# Altium footprint library VSON.PcbLib: 1 footprints
Each footprint in its own frame and in the unit in brackets; x right, y up, seen from the top. Pads: shape width x height; smd on the part's side, far side on the other; paste and mask are expansions set on the pad; w line width, h text height; cw(c..) or ccw(c..) is an arc to the next point about the centre after c.
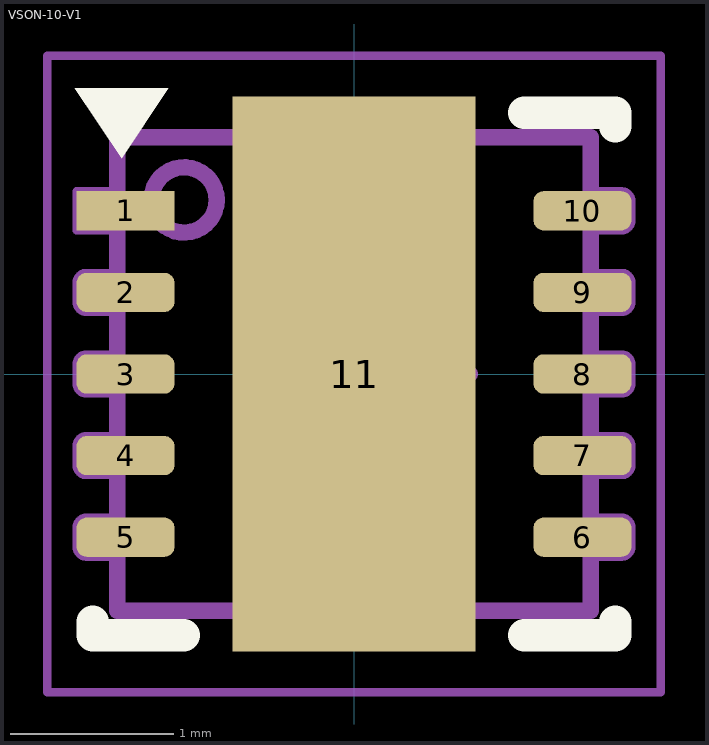
[diagram p0: the footprint, top view; thin cyan lines are the x and y axes]

## VSON-10-V1 [mm] "VSON, 10-Leads, Body 3,00x3,00mm, Pitch 0,50mm, Thermal Pad 2,40x1,49mm, IPC Low Density"
height 1
pads (11):
  rect 0.6x0.24 smd: 1(-1.4,1)
  rrect50% 0.6x0.24 smd: 2(-1.4,0.5) 3(-1.4,0) 4(-1.4,-0.5) 5(-1.4,-1) 6(1.4,-1) 7(1.4,-0.5) 8(1.4,0) 9(1.4,0.5) 10(1.4,1)
  rect 1.49x3.4 smd: 11(0,0)
Top Overlay:
  region: -1.138,1.753 -1.71,1.753 -1.424,1.324
  lines w0.2: -1.6,-1.52 -1.6,-1.6 -1.045,-1.6 ; 1.045,-1.6 1.6,-1.6 1.6,-1.52 ; 1.045,1.6 1.6,1.6 1.6,1.52
Top Assembly:
  circle w0.1: c-1.041,1.067 r0.2
  lines w0.05: -1.45,-1.121 -1.64,-1.12 cw(c-1.64,-1.06) -1.7,-1.06 -1.7,-0.94 cw(c-1.64,-0.94) -1.64,-0.88 -1.45,-0.88 ; -1.45,-0.621 -1.64,-0.62 cw(c-1.64,-0.56) -1.7,-0.56 -1.7,-0.44 cw(c-1.64,-0.44) -1.64,-0.38 -1.45,-0.38 ; -1.45,-0.121 -1.64,-0.12 cw(c-1.64,-0.06) -1.7,-0.06 -1.7,0.06 cw(c-1.64,0.06) -1.64,0.12 -1.45,0.12 ; -1.45,0.379 -1.64,0.38 cw(c-1.64,0.44) -1.7,0.44 -1.7,0.56 cw(c-1.64,0.56) -1.64,0.62 -1.45,0.62 ; -1.45,0.879 -1.7,0.88 -1.7,1.12 -1.45,1.12 ; 1.45,-1.12 1.64,-1.12 ccw(c1.64,-1.06) 1.7,-1.06 1.7,-0.94 ccw(c1.64,-0.94) 1.64,-0.88 1.45,-0.879 ; 1.45,-0.62 1.64,-0.62 ccw(c1.64,-0.56) 1.7,-0.56 1.7,-0.44 ccw(c1.64,-0.44) 1.64,-0.38 1.45,-0.379 ; 1.45,-0.12 1.64,-0.12 ccw(c1.64,-0.06) 1.7,-0.06 1.7,0.06 ccw(c1.64,0.06) 1.64,0.12 1.45,0.121 ; 1.45,0.38 1.64,0.38 ccw(c1.64,0.44) 1.7,0.44 1.7,0.56 ccw(c1.64,0.56) 1.64,0.62 1.45,0.621 ; 1.45,0.88 1.64,0.88 ccw(c1.64,0.94) 1.7,0.94 1.7,1.06 ccw(c1.64,1.06) 1.64,1.12 1.45,1.121
  lines w0.1: -1.45,-1.45 1.45,-1.45 1.45,1.45 -1.45,1.45 -1.45,-1.45
Top Component Outline:
  lines w0.05: -1.88,-1.95 -1.88,1.95 1.88,1.95 1.88,-1.95 -1.88,-1.95
Top Component Center:
  circle w0.1: c0,0 r0.5
  lines w0.1: -0.686,0 0.711,0 ; -0.001,-0.706 -0.001,0.691
3D body "SON50P300X100_HS-11M.step": height 1, standoff 0, extent -1.55,-1.45 1.55,1.45